# EAGLE library part IOT (library IoT Card)
IoT Expansion Card The IoT Expansion Card form factor represents an open hardware standard for sensors, network adapters, and other IoT technologies that can be "plugged" into host applications (e.g. hardware development board) to provide new features and interfaces. As a family, IoT Expansion Cards share a standardized footprint and pinout, with several interfaces to support various IoT technologies. Please check as well: http://mangoh.io/uploaded-documents/Reference/IoT%20Cards/IoT%20Card%20Specification/4117166_IoT%20Expansion%20Card%20Design%20Specification_r8.pdf
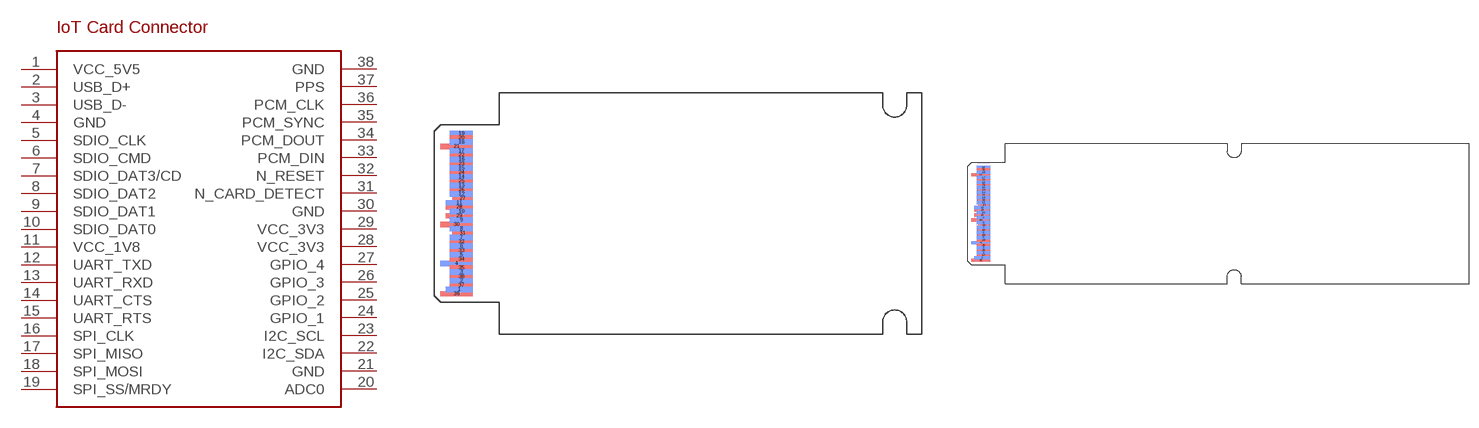
[diagram p0: symbol with the pads of IOT; footprints IOT, IOT_LONG]

Designator prefix -

## IOT  [IOT]
1  VCC_5V5  pwr
2  USB_D+
3  USB_D-
4  GND  sup
5  SDIO_CLK  in
6  SDIO_CMD  in
7  SDIO_DAT3/CD
8  SDIO_DAT2
9  SDIO_DAT1
10  SDIO_DAT0
11  VCC_1V8  pwr
12  UART_TXD  out
13  UART_RXD  in
14  UART_CTS  in
15  UART_RTS  out
16  SPI_CLK  in
17  SPI_MISO  out
18  SPI_MOSI  in
19  SPI_SS/MRDY  in
20  ADC0  out
21  GND  sup
22  I2C_SDA
23  I2C_SCL  in
24  GPIO_1
25  GPIO_2
26  GPIO_3
27  GPIO_4
28  VCC_3V3  pwr
29  VCC_3V3  pwr
30  GND  sup
31  N_CARD_DETECT
32  N_RESET
33  PCM_DIN  out
34  PCM_DOUT  in
35  PCM_SYNC  in
36  PCM_CLK  in
37  PPS  in
38  GND

## IOTLONG  [IOT_LONG]
Pads as for IOT

## Footprint IOT (pad centres in mm)
smd 2.5 x 0.5 bottom: 1 2.3,4.15; 11 2.3,12.15
smd 2.1 x 0.5 bottom: 2 2.5,4.95; 3 2.5,5.75; 5 2.5,7.35; 6 2.5,8.15; 7 2.5,8.95; 8 2.5,9.75; 9 2.5,10.55; 10 2.5,11.35; 12 2.5,12.95; 13 2.5,13.75; 14 2.5,14.55; 15 2.5,15.35; 16 2.5,16.15; 17 2.5,16.95; 18 2.5,17.75; 19 2.5,18.55
smd 3 x 0.5 bottom: 4 2.05,6.55
smd 2.1 x 0.5: 20 2.5,18.15; 22 2.5,16.55; 23 2.5,15.75; 24 2.5,14.95; 25 2.5,14.15; 26 2.5,13.35; 32 2.5,8.55; 33 2.5,7.75; 34 2.5,6.95; 35 2.5,6.15; 36 2.5,5.35; 37 2.5,4.55
smd 3 x 0.5: 21 2.05,17.35; 30 2.05,10.15; 38 2.05,3.75
smd 1.9 x 0.5: 27 2.6,12.55; 31 2.6,9.35
smd 2.5 x 0.5: 28 2.3,11.75; 29 2.3,10.95

## Footprint IOT_LONG (pad centres in mm)
smd 2.5 x 0.5 bottom: 1 2.3,4.15; 11 2.3,12.15
smd 2.1 x 0.5 bottom: 2 2.5,4.95; 3 2.5,5.75; 5 2.5,7.35; 6 2.5,8.15; 7 2.5,8.95; 8 2.5,9.75; 9 2.5,10.55; 10 2.5,11.35; 12 2.5,12.95; 13 2.5,13.75; 14 2.5,14.55; 15 2.5,15.35; 16 2.5,16.15; 17 2.5,16.95; 18 2.5,17.75; 19 2.5,18.55
smd 3 x 0.5 bottom: 4 2.05,6.55
smd 2.1 x 0.5: 20 2.5,18.15; 22 2.5,16.55; 23 2.5,15.75; 24 2.5,14.95; 25 2.5,14.15; 26 2.5,13.35; 32 2.5,8.55; 33 2.5,7.75; 34 2.5,6.95; 35 2.5,6.15; 36 2.5,5.35; 37 2.5,4.55
smd 3 x 0.5: 21 2.05,17.35; 30 2.05,10.15; 38 2.05,3.75
smd 1.9 x 0.5: 27 2.6,12.55; 31 2.6,9.35
smd 2.5 x 0.5: 28 2.3,11.75; 29 2.3,10.95